# Altium footprint library USB-C_Power_Supply_PCB.PcbLib: 19 footprints (part 1 of 2)
Each footprint in its own frame and in the unit in brackets; x right, y up, seen from the top. Pads: shape width x height; smd on the part's side, far side on the other; paste and mask are expansions set on the pad; w line width, h text height; cw(c..) or ccw(c..) is an arc to the next point about the centre after c.
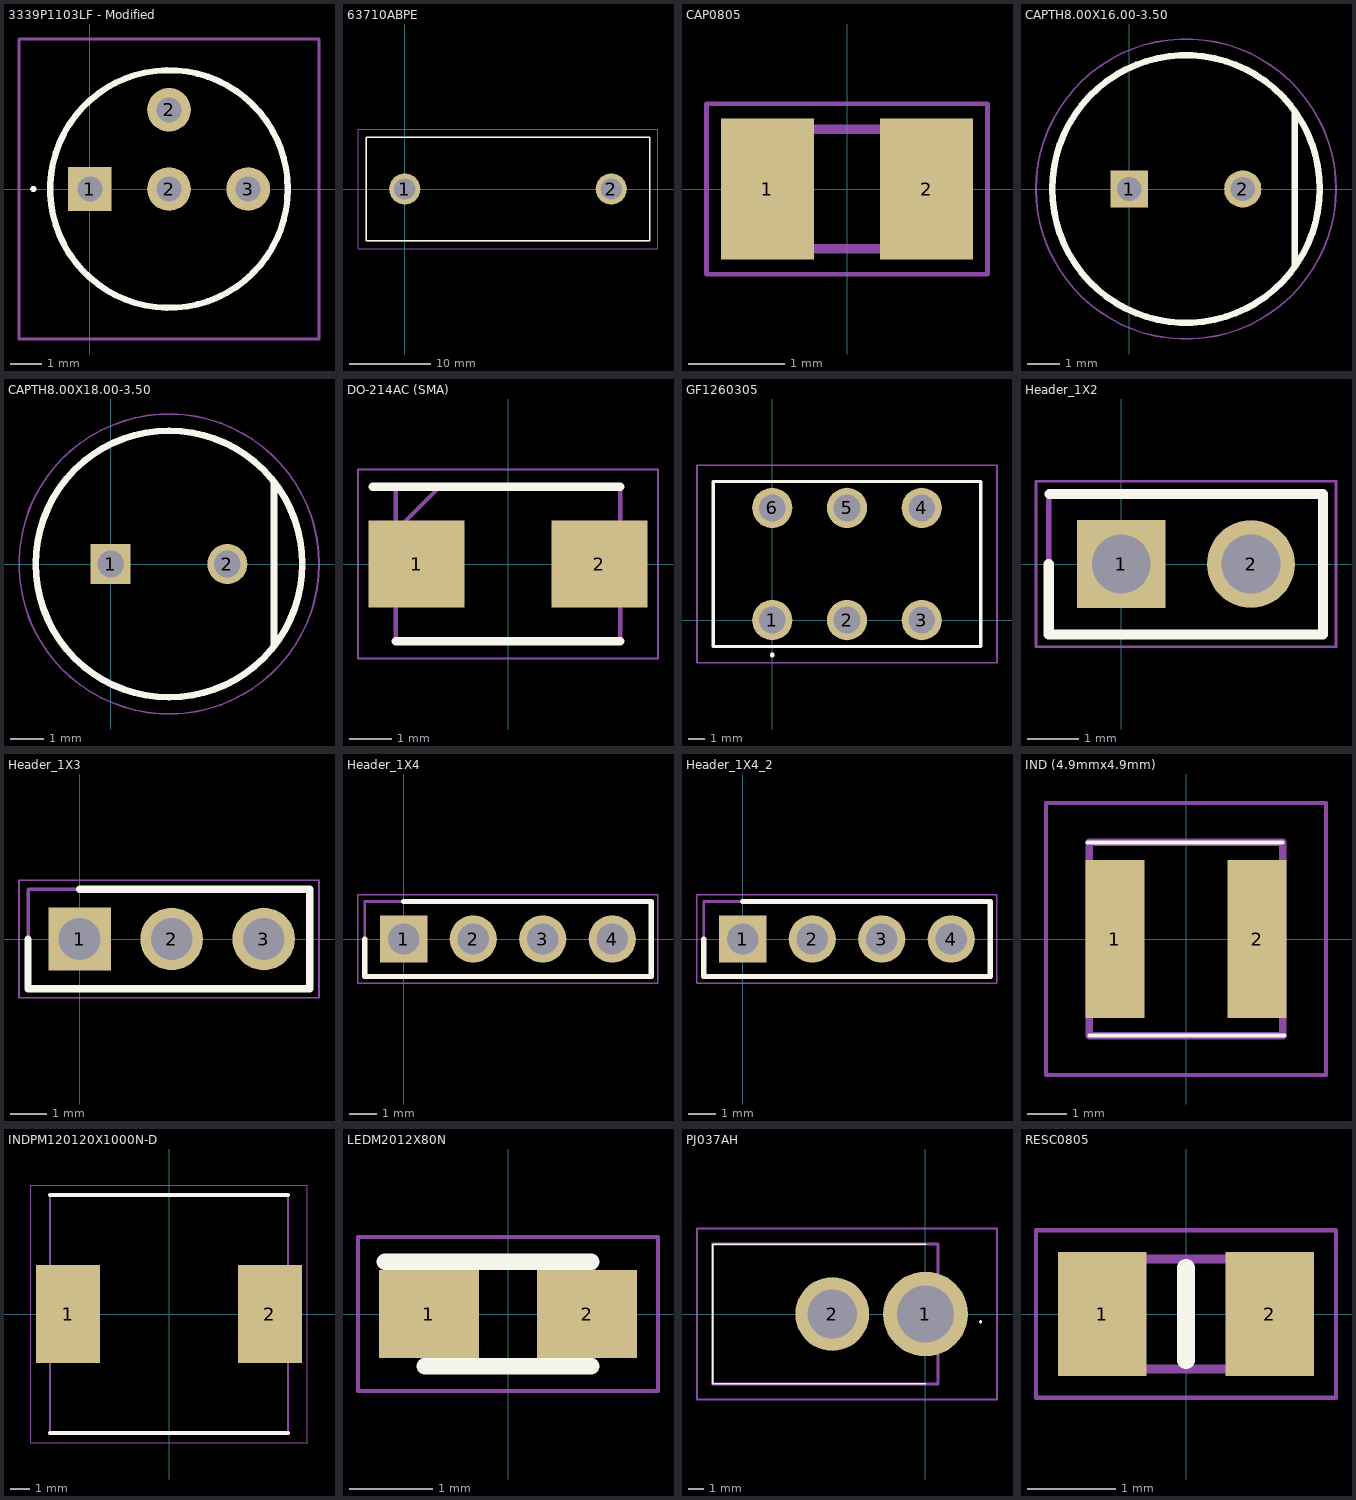
[diagram p0: the footprints below, top view; thin cyan lines are the x and y axes]

## 3339P1103LF - Modified [mm]
pads (4):
  rect 1.4x1.4 hole 0.8: 1(0,0)
  round 1.4 hole 0.8: 2(2.54,0) 2(2.54,2.54) 3(5.08,0)
Top Overlay:
  circle w0.2: c2.54,0 r3.81
  lines w0.1: -1.86,0 cw(c-1.81,0) -1.76,0 cw(c-1.81,0) -1.86,0
Mechanical 13:
  circle w0.1: c2.54,0 r3.81
Mechanical 15:
  lines w0.1: -2.27,-4.81 -2.27,4.81 7.35,4.81 7.35,-4.81 -2.27,-4.81
3D body "3339P-1-103LF.stp": height 6.42, standoff -4.69, extent -1.27,-3.81 6.35,3.81

## 63710ABPE [mm]
pads (2):
  round 3.84 hole 2.6: 1(0,0) 2(25.4,0)
Top Overlay:
  lines w0.2: -4.75,-6.35 -4.75,6.35 30.15,6.35 30.15,-6.35 -4.75,-6.35
Mechanical 13:
  lines w0.1: -4.75,-6.35 -4.75,6.35 30.15,6.35 30.15,-6.35 -4.75,-6.35
Mechanical 15:
  lines w0.1: -5.75,-7.35 -5.75,7.35 31.15,7.35 31.15,-7.35 -5.75,-7.35
3D body "637-10ABPE.stp": height 25.7, standoff -3.7, extent -5.035,-6.289 30.435,6.289

## CAP0805 [mm]
pads (2):
  rect 0.97x1.47 smd: 1(-0.83,0) 2(0.83,0)
Mechanical 13:
  lines w0.1: -1,-0.625 -1,0.625 1,0.625 1,-0.625 -1,-0.625
Mechanical 15:
  lines w0.05: -1.465,-0.89 -1.465,0.89 1.465,0.89 1.465,-0.89 -1.465,-0.89
3D body "GRM21BC60J226ME15K.stp": height 1.45, standoff 0, extent -1,-0.625 1,0.625

## CAPTH8.00X16.00-3.50 [mm]
pads (2):
  rect 1.15x1.15 hole 0.75: 1(0,0)
  round 1.15 hole 0.75: 2(3.5,0)
Top Overlay:
  circle w0.2: c1.75,0 r4.125
  lines w0.2: 5.1,-2.4 5.1,2.4
Mechanical 13:
  circle w0.1: c1.75,0 r4.125
Mechanical 15:
  circle w0.05: c1.75,0 r4.625
3D body "REF0816471M025K.stp": height 18, standoff -10, extent -2.488,-4.247 6,4.247

## CAPTH8.00X18.00-3.50 [mm]
pads (2):
  rect 1.2x1.2 hole 0.8: 1(0,0)
  round 1.2 hole 0.8: 2(3.5,0)
Top Overlay:
  circle w0.2: c1.75,0 r4
  lines w0.2: 4.9,-2.4 4.9,2.4
Mechanical 13:
  circle w0.1: c1.75,0 r4
Mechanical 15:
  circle w0.05: c1.75,0 r4.5
3D body "ESL227M035AG8AA.stp": height 18.01, standoff -20, extent -2.482,-4.25 5.982,4.25

## DO-214AC (SMA) [mm]
pads (2):
  rect 2.25x2.05 smd: 1(-2.15,0) 2(2.15,0)
Top Overlay:
  lines w0.2: -3.175,1.81 2.635,1.81 ; -2.635,-1.81 2.635,-1.81
Mechanical 13:
  lines w0.1: -2.635,0.785 -1.61,1.81 ; -2.635,-1.81 -2.635,1.81 2.635,1.81 2.635,-1.81 -2.635,-1.81
Mechanical 15:
  lines w0.05: -3.525,-2.22 -3.525,2.22 3.525,2.22 3.525,-2.22 -3.525,-2.22
3D body "SS510B.stp": height 2.44, standoff 0, extent -2.635,-1.81 2.635,1.81

## GF1260305 [mm]
pads (6):
  round 2.475 hole 1.65: 1(0,0) 2(4.6,0) 3(9.2,0) 4(9.2,6.91) 5(4.6,6.91) 6(0,6.91)
Top Overlay:
  lines w0.2: 0,-2.2 ccw(c0,-2.15) 0,-2.1 ; 0,-2.2 cw(c0,-2.15) 0,-2.1 ; 0,-2.2 ccw(c0,-2.15) 0,-2.1 ; -3.63,-1.625 -3.63,8.535 12.83,8.535 12.83,-1.625 -3.63,-1.625
Mechanical 13:
  lines w0.1: -3.63,-1.625 -3.63,8.535 12.83,8.535 12.83,-1.625 -3.63,-1.625
Mechanical 15:
  lines w0.1: -4.63,-2.625 -4.63,9.535 13.83,9.535 13.83,-2.625 -4.63,-2.625
3D body "GF-126-0305.stp": height 15.06, standoff -5, extent -3.63,-1.625 12.83,8.535

## Header_1X2 [mm]
pads (2):
  rect 1.725x1.725 hole 1.15: 1(0,0)
  round 1.725 hole 1.15: 2(2.54,0)
Top Overlay:
  lines w0.2: -1.42,-1.38 3.95,-1.38 ; -1.42,-1.37 -1.42,0 ; -1.4,1.37 3.95,1.37 3.95,-1.35
Mechanical 13:
  lines w0.1: -1.42,-1.37 -1.42,1.37 3.95,1.37 3.95,-1.37
Mechanical 15:
  lines w0.05: 4.2,-1.62 -1.67,-1.62 -1.67,1.62 4.2,1.62 ; 4.204,-1.62 4.204,1.62

## Header_1X3 [mm]
pads (3):
  rect 1.725x1.725 hole 1.15: 1(0,0)
  round 1.725 hole 1.15: 2(2.54,0) 3(5.08,0)
Top Overlay:
  lines w0.2: -1.42,0 -1.42,-1.37 6.35,-1.37 6.35,1.37 0,1.37
Mechanical 13:
  lines w0.1: -1.42,-1.37 6.35,-1.37 6.35,1.37 -1.42,1.37 -1.42,-1.37
Mechanical 15:
  lines w0.05: -1.67,-1.62 -1.67,1.62 6.604,1.62 6.604,-1.62 -1.67,-1.62

## Header_1X4 [mm]
pads (4):
  rect 1.725x1.725 hole 1.15: 1(0,0)
  round 1.725 hole 1.15: 2(2.54,0) 3(5.08,0) 4(7.62,0)
Top Overlay:
  lines w0.2: -1.42,0 -1.42,-1.37 9.04,-1.37 9.04,1.37 0,1.37
Mechanical 13:
  lines w0.1: -1.42,-1.37 -1.42,1.37 9.04,1.37 9.04,-1.37 -1.42,-1.37
Mechanical 15:
  lines w0.05: -1.67,-1.62 -1.67,1.62 9.29,1.62 9.29,-1.62 -1.67,-1.62

## Header_1X4_2 [mm]
pads (4):
  rect 1.725x1.725 hole 1.15: 1(0,0)
  round 1.725 hole 1.15: 2(2.54,0) 3(5.08,0) 4(7.62,0)
Top Overlay:
  lines w0.2: -1.42,0 -1.42,-1.37 9.04,-1.37 9.04,1.37 0,1.37
Mechanical 13:
  lines w0.1: -1.42,-1.37 -1.42,1.37 9.04,1.37 9.04,-1.37 -1.42,-1.37
Mechanical 15:
  lines w0.05: -1.67,-1.62 -1.67,1.62 9.29,1.62 9.29,-1.62 -1.67,-1.62

## IND (4.9mmx4.9mm) [mm]
pads (2):
  rect 1.5x4 smd: 1(-1.8,0) 2(1.8,0)
Top Overlay:
  lines w0.1: -2.5,2.45 2.45,2.45 ; -2.45,-2.45 2.5,-2.45
Mechanical 13:
  lines w0.2: -2.45,-2.45 2.45,-2.45 2.45,2.45 -2.45,2.45 -2.45,-2.45
Mechanical 15:
  lines w0.1: -3.55,-3.45 3.55,-3.45 3.55,3.45 -3.55,3.45 -3.55,-3.45
3D body "NRS5030T100MMGJ.stp": height 4.1, standoff 0, extent -2.45,-2.45 2.45,2.45

## INDPM120120X1000N-D [mm]
pads (2):
  rect 3.25x4.95 smd: 1(-5.1,0) 2(5.1,0)
Top Overlay:
  lines w0.2: -6,-6 6,-6 ; -6,6 6,6
Mechanical 13:
  lines w0.1: -6,-6 -6,6 6,6 6,-6 -6,-6
Mechanical 15:
  lines w0.05: -6.975,-6.5 -6.975,6.5 6.975,6.5 6.975,-6.5 -6.975,-6.5
3D body "SRR1210-151M.stp": height 10, standoff 0, extent -6,-6 6,6

## LEDM2012X80N [mm]
pads (2):
  rect 1.2x1.05 smd: 1(-0.95,0) 2(0.95,0)
Top Overlay:
  lines w0.2: -1.475,0.625 1,0.625 ; -1,-0.625 1,-0.625
Mechanical 13:
  lines w0.1: -1,0.1 -0.475,0.625 ; -1,-0.625 1,-0.625 1,0.625 -1,0.625 -1,-0.625
Mechanical 15:
  lines w0.05: -1.8,-0.925 1.8,-0.925 1.8,0.925 -1.8,0.925 -1.8,-0.925
3D body "150080GS75000.stp": height 0.7, standoff 0, extent -1,-0.625 1,0.625

## PJ037AH [mm]
pads (2):
  round 5.46 hole 3.64: 1(0,0)
  round 4.74 hole 3.16: 2(-6,0)
Top Overlay:
  lines w0.1: 0,-4.5 -13.7,-4.5 -13.7,4.5 0,4.5 ; 3.5,-0.5 cw(c3.55,-0.5) 3.6,-0.5 cw(c3.55,-0.5) 3.5,-0.5
Mechanical 13:
  lines w0.2: -13.7,-4.5 -13.7,4.5 0.8,4.5 0.8,-4.5 -13.7,-4.5
Mechanical 15:
  lines w0.1: -14.7,-5.5 -14.7,5.5 4.6,5.5 4.6,-5.5 -14.7,-5.5
3D body "PJ-037AH.stp": height 11, standoff -3.49, extent -13.5,-4.5 1,4.5

## RESC0805 [mm]
pads (2):
  rect 1x1.4 smd: 1(-0.95,0) 2(0.95,0)
Top Overlay:
  lines w0.2: 0,-0.525 0,0.525
Mechanical 13:
  lines w0.1: -1,-0.625 1,-0.625 1,0.625 -1,0.625 -1,-0.625
Mechanical 15:
  lines w0.05: -1.7,-0.95 1.7,-0.95 1.7,0.95 -1.7,0.95 -1.7,-0.95
3D body "CR0805-FX-1781ELF.stp": height 0.5, standoff 0, extent -1,-0.625 1,0.625